# Altium footprint library Connector_Wire.PcbLib: 326 footprints (part 19 of 21)
Each footprint in its own frame and in the unit in brackets; x right, y up, seen from the top. Pads: shape width x height; smd on the part's side, far side on the other; paste and mask are expansions set on the pad; w line width, h text height; cw(c..) or ccw(c..) is an arc to the next point about the centre after c.
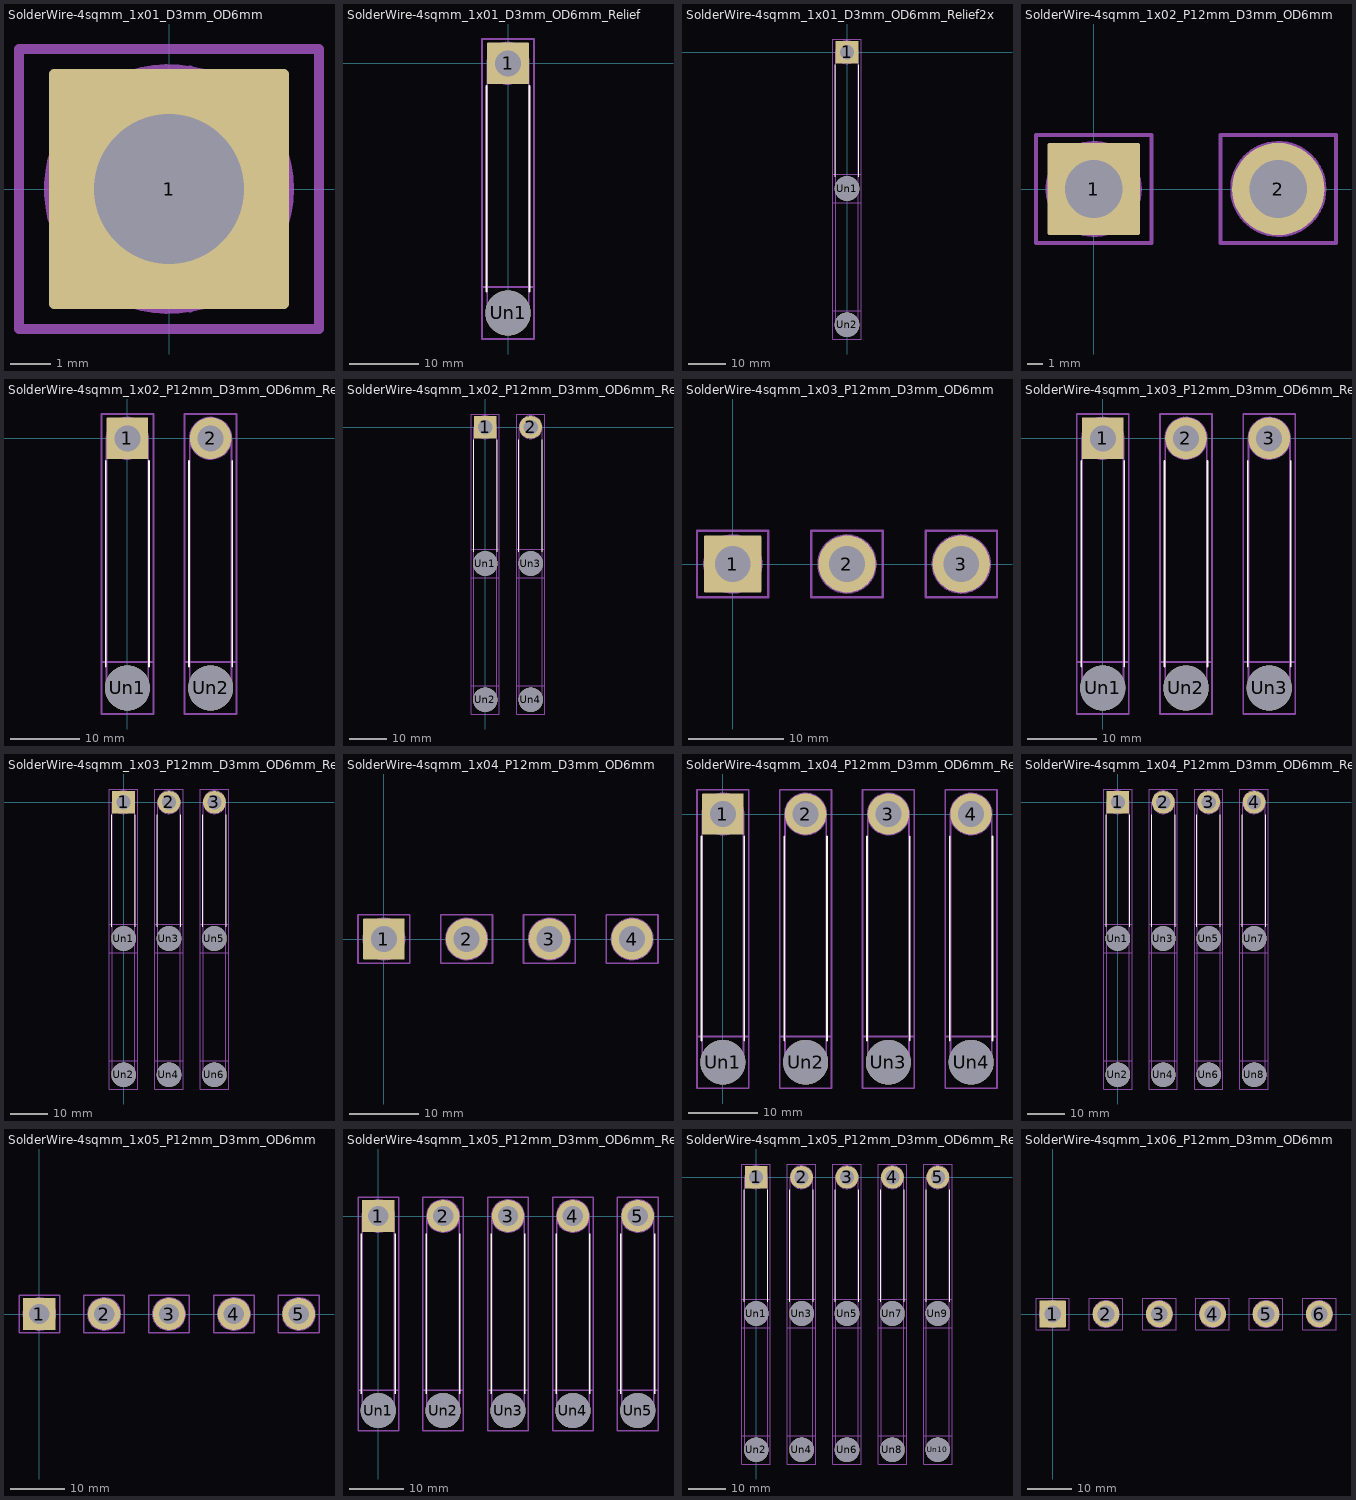
[diagram p18: the footprints below, top view; thin cyan lines are the x and y axes]

## SolderWire-4sqmm_1x01_D3mm_OD6mm [mm]
pads (1):
  rrect4% 6x6 hole 3.75: 1(0,0)
Top Assembly:
  circle w0.254: c0,0 r3
  text "'.Designator'" at -4.047,-0.84 h1
Top Courtyard:
  lines w0.254: -3.75,-3.5 3.75,-3.5 3.75,3.5 -3.75,3.5 -3.75,-3.5
Top Designator:
  text ".Designator" at -7.768,-0.508 h1.52

## SolderWire-4sqmm_1x01_D3mm_OD6mm_Relief [mm]
pads (2):
  rrect4% 6x6 hole 3.75: 1(0,0)
  round 6.5 hole 6.5: Un1(0,-36)
F.SilkS:
  lines w0.254: -3.11,-32.89 -3.11,-3.26 ; 3.11,-32.89 3.11,-3.26
Top Assembly:
  circle w0.254: c0,-36 r3
  circle w0.254: c0,0 r3
  lines w0.254: -3,-36 -3,0 ; 3,-36 3,0
  text "'.Designator'" at -4.047,-18.84 h1
Top Courtyard:
  lines w0.254: -3.75,-39.75 3.75,-39.75 3.75,3.5 -3.75,3.5 -3.75,-39.75
Bottom Courtyard:
  lines w0.254: -3.75,-39.75 3.75,-39.75 3.75,-32.25 -3.75,-32.25 -3.75,-39.75
Top Designator:
  text ".Designator" at -7.768,-18.633 h1.52

## SolderWire-4sqmm_1x01_D3mm_OD6mm_Relief2x [mm]
pads (3):
  rrect4% 6x6 hole 3.75: 1(0,0)
  round 6.5 hole 6.5: Un1(0,-36) Un2(0,-72)
F.SilkS:
  lines w0.254: -3.11,-32.89 -3.11,-3.26 ; 3.11,-32.89 3.11,-3.26
B.SilkS:
  lines w0.254: -3.11,-68.89 -3.11,-39.11 ; 3.11,-68.89 3.11,-39.11
Top Assembly:
  circle w0.254: c0,-72 r3
  circle w0.254: c0,-36 r3
  circle w0.254: c0,0 r3
  lines w0.254: -3,-36 -3,0 ; 3,-36 3,0
  text "'.Designator'" at -4.047,-18.84 h1
Bottom Assembly:
  circle w0.254: c0,-72 r3
  circle w0.254: c0,-36 r3
  lines w0.254: -3,-72 -3,-36 ; 3,-72 3,-36
Top Courtyard:
  lines w0.254: -3.75,-75.75 3.75,-75.75 3.75,-68.25 -3.75,-68.25 -3.75,-75.75 ; -3.75,-39.75 3.75,-39.75 3.75,3.5 -3.75,3.5 -3.75,-39.75
Bottom Courtyard:
  lines w0.254: -3.75,-75.75 3.75,-75.75 3.75,-32.25 -3.75,-32.25 -3.75,-75.75
Top Designator:
  text ".Designator" at -7.768,-36.633 h1.52

## SolderWire-4sqmm_1x02_P12mm_D3mm_OD6mm [mm]
pads (2):
  rrect4% 6x6 hole 3.75: 1(0,0)
  round 6 hole 3.75: 2(12,0)
Top Assembly:
  circle w0.254: c12,0 r3
  circle w0.254: c0,0 r3
  text "'.Designator'" at 1.953,-0.84 h1
Top Courtyard:
  lines w0.254: -3.75,-3.5 3.75,-3.5 3.75,3.5 -3.75,3.5 -3.75,-3.5 ; 8.25,-3.5 15.75,-3.5 15.75,3.5 8.25,3.5 8.25,-3.5
Top Designator:
  text ".Designator" at -1.618,-0.508 h1.52

## SolderWire-4sqmm_1x02_P12mm_D3mm_OD6mm_Relief [mm]
pads (4):
  rrect4% 6x6 hole 3.75: 1(0,0)
  round 6 hole 3.75: 2(12,0)
  round 6.5 hole 6.5: Un1(0,-36) Un2(12,-36)
F.SilkS:
  lines w0.254: -3.11,-32.89 -3.11,-3.26 ; 3.11,-32.89 3.11,-3.26 ; 8.89,-32.89 8.89,-3.26 ; 15.11,-32.89 15.11,-3.26
Top Assembly:
  circle w0.254: c12,-36 r3
  circle w0.254: c12,0 r3
  circle w0.254: c0,-36 r3
  circle w0.254: c0,0 r3
  lines w0.254: -3,-36 -3,0 ; 3,-36 3,0 ; 9,-36 9,0 ; 15,-36 15,0
  text "'.Designator'" at 1.953,-18.84 h1
Top Courtyard:
  lines w0.254: -3.75,-39.75 3.75,-39.75 3.75,3.5 -3.75,3.5 -3.75,-39.75 ; 8.25,-39.75 15.75,-39.75 15.75,3.5 8.25,3.5 8.25,-39.75
Bottom Courtyard:
  lines w0.254: -3.75,-39.75 3.75,-39.75 3.75,-32.25 -3.75,-32.25 -3.75,-39.75 ; 8.25,-39.75 15.75,-39.75 15.75,-32.25 8.25,-32.25 8.25,-39.75
Top Designator:
  text ".Designator" at -1.618,-18.633 h1.52

## SolderWire-4sqmm_1x02_P12mm_D3mm_OD6mm_Relief2x [mm]
pads (6):
  rrect4% 6x6 hole 3.75: 1(0,0)
  round 6 hole 3.75: 2(12,0)
  round 6.5 hole 6.5: Un1(0,-36) Un2(0,-72) Un3(12,-36) Un4(12,-72)
F.SilkS:
  lines w0.254: -3.11,-32.89 -3.11,-3.26 ; 3.11,-32.89 3.11,-3.26 ; 8.89,-32.89 8.89,-3.26 ; 15.11,-32.89 15.11,-3.26
B.SilkS:
  lines w0.254: -3.11,-68.89 -3.11,-39.11 ; 3.11,-68.89 3.11,-39.11 ; 8.89,-68.89 8.89,-39.11 ; 15.11,-68.89 15.11,-39.11
Top Assembly:
  circle w0.254: c12,-72 r3
  circle w0.254: c12,-36 r3
  circle w0.254: c12,0 r3
  circle w0.254: c0,-72 r3
  circle w0.254: c0,-36 r3
  circle w0.254: c0,0 r3
  lines w0.254: -3,-36 -3,0 ; 3,-36 3,0 ; 9,-36 9,0 ; 15,-36 15,0
  text "'.Designator'" at 1.953,-18.84 h1
Bottom Assembly:
  circle w0.254: c12,-72 r3
  circle w0.254: c12,-36 r3
  circle w0.254: c0,-72 r3
  circle w0.254: c0,-36 r3
  lines w0.254: -3,-72 -3,-36 ; 3,-72 3,-36 ; 9,-72 9,-36 ; 15,-72 15,-36
Top Courtyard:
  lines w0.254: -3.75,-75.75 3.75,-75.75 3.75,-68.25 -3.75,-68.25 -3.75,-75.75 ; -3.75,-39.75 3.75,-39.75 3.75,3.5 -3.75,3.5 -3.75,-39.75 ; 8.25,-75.75 15.75,-75.75 15.75,-68.25 8.25,-68.25 8.25,-75.75 ; 8.25,-39.75 15.75,-39.75 15.75,3.5 8.25,3.5 8.25,-39.75
Bottom Courtyard:
  lines w0.254: -3.75,-75.75 3.75,-75.75 3.75,-32.25 -3.75,-32.25 -3.75,-75.75 ; 8.25,-75.75 15.75,-75.75 15.75,-32.25 8.25,-32.25 8.25,-75.75
Top Designator:
  text ".Designator" at -1.618,-36.633 h1.52

## SolderWire-4sqmm_1x03_P12mm_D3mm_OD6mm [mm]
pads (3):
  rrect4% 6x6 hole 3.75: 1(0,0)
  round 6 hole 3.75: 2(12,0) 3(24,0)
Top Assembly:
  circle w0.254: c24,0 r3
  circle w0.254: c12,0 r3
  circle w0.254: c0,0 r3
  text "'.Designator'" at 7.953,-0.84 h1
Top Courtyard:
  lines w0.254: -3.75,-3.5 3.75,-3.5 3.75,3.5 -3.75,3.5 -3.75,-3.5 ; 8.25,-3.5 15.75,-3.5 15.75,3.5 8.25,3.5 8.25,-3.5 ; 20.25,-3.5 27.75,-3.5 27.75,3.5 20.25,3.5 20.25,-3.5
Top Designator:
  text ".Designator" at 4.382,-0.508 h1.52

## SolderWire-4sqmm_1x03_P12mm_D3mm_OD6mm_Relief [mm]
pads (6):
  rrect4% 6x6 hole 3.75: 1(0,0)
  round 6 hole 3.75: 2(12,0) 3(24,0)
  round 6.5 hole 6.5: Un1(0,-36) Un2(12,-36) Un3(24,-36)
F.SilkS:
  lines w0.254: -3.11,-32.89 -3.11,-3.26 ; 3.11,-32.89 3.11,-3.26 ; 8.89,-32.89 8.89,-3.26 ; 15.11,-32.89 15.11,-3.26 ; 20.89,-32.89 20.89,-3.26 ; 27.11,-32.89 27.11,-3.26
Top Assembly:
  circle w0.254: c24,-36 r3
  circle w0.254: c24,0 r3
  circle w0.254: c12,-36 r3
  circle w0.254: c12,0 r3
  circle w0.254: c0,-36 r3
  circle w0.254: c0,0 r3
  lines w0.254: -3,-36 -3,0 ; 3,-36 3,0 ; 9,-36 9,0 ; 15,-36 15,0 ; 21,-36 21,0 ; 27,-36 27,0
  text "'.Designator'" at 7.953,-18.84 h1
Top Courtyard:
  lines w0.254: -3.75,-39.75 3.75,-39.75 3.75,3.5 -3.75,3.5 -3.75,-39.75 ; 8.25,-39.75 15.75,-39.75 15.75,3.5 8.25,3.5 8.25,-39.75 ; 20.25,-39.75 27.75,-39.75 27.75,3.5 20.25,3.5 20.25,-39.75
Bottom Courtyard:
  lines w0.254: -3.75,-39.75 3.75,-39.75 3.75,-32.25 -3.75,-32.25 -3.75,-39.75 ; 8.25,-39.75 15.75,-39.75 15.75,-32.25 8.25,-32.25 8.25,-39.75 ; 20.25,-39.75 27.75,-39.75 27.75,-32.25 20.25,-32.25 20.25,-39.75
Top Designator:
  text ".Designator" at 4.382,-18.633 h1.52

## SolderWire-4sqmm_1x03_P12mm_D3mm_OD6mm_Relief2x [mm]
pads (9):
  rrect4% 6x6 hole 3.75: 1(0,0)
  round 6 hole 3.75: 2(12,0) 3(24,0)
  round 6.5 hole 6.5: Un1(0,-36) Un2(0,-72) Un3(12,-36) Un4(12,-72) Un5(24,-36) Un6(24,-72)
F.SilkS:
  lines w0.254: -3.11,-32.89 -3.11,-3.26 ; 3.11,-32.89 3.11,-3.26 ; 8.89,-32.89 8.89,-3.26 ; 15.11,-32.89 15.11,-3.26 ; 20.89,-32.89 20.89,-3.26 ; 27.11,-32.89 27.11,-3.26
B.SilkS:
  lines w0.254: -3.11,-68.89 -3.11,-39.11 ; 3.11,-68.89 3.11,-39.11 ; 8.89,-68.89 8.89,-39.11 ; 15.11,-68.89 15.11,-39.11 ; 20.89,-68.89 20.89,-39.11 ; 27.11,-68.89 27.11,-39.11
Top Assembly:
  circle w0.254: c24,-72 r3
  circle w0.254: c24,-36 r3
  circle w0.254: c24,0 r3
  circle w0.254: c12,-72 r3
  circle w0.254: c12,-36 r3
  circle w0.254: c12,0 r3
  circle w0.254: c0,-72 r3
  circle w0.254: c0,-36 r3
  circle w0.254: c0,0 r3
  lines w0.254: -3,-36 -3,0 ; 3,-36 3,0 ; 9,-36 9,0 ; 15,-36 15,0 ; 21,-36 21,0 ; 27,-36 27,0
  text "'.Designator'" at 7.953,-18.84 h1
Bottom Assembly:
  circle w0.254: c24,-72 r3
  circle w0.254: c24,-36 r3
  circle w0.254: c12,-72 r3
  circle w0.254: c12,-36 r3
  circle w0.254: c0,-72 r3
  circle w0.254: c0,-36 r3
  lines w0.254: -3,-72 -3,-36 ; 3,-72 3,-36 ; 9,-72 9,-36 ; 15,-72 15,-36 ; 21,-72 21,-36 ; 27,-72 27,-36
Top Courtyard:
  lines w0.254: -3.75,-75.75 3.75,-75.75 3.75,-68.25 -3.75,-68.25 -3.75,-75.75 ; -3.75,-39.75 3.75,-39.75 3.75,3.5 -3.75,3.5 -3.75,-39.75 ; 8.25,-75.75 15.75,-75.75 15.75,-68.25 8.25,-68.25 8.25,-75.75 ; 8.25,-39.75 15.75,-39.75 15.75,3.5 8.25,3.5 8.25,-39.75 ; 20.25,-75.75 27.75,-75.75 27.75,-68.25 20.25,-68.25 20.25,-75.75 ; 20.25,-39.75 27.75,-39.75 27.75,3.5 20.25,3.5 20.25,-39.75
Bottom Courtyard:
  lines w0.254: -3.75,-75.75 3.75,-75.75 3.75,-32.25 -3.75,-32.25 -3.75,-75.75 ; 8.25,-75.75 15.75,-75.75 15.75,-32.25 8.25,-32.25 8.25,-75.75 ; 20.25,-75.75 27.75,-75.75 27.75,-32.25 20.25,-32.25 20.25,-75.75
Top Designator:
  text ".Designator" at 4.382,-36.633 h1.52

## SolderWire-4sqmm_1x04_P12mm_D3mm_OD6mm [mm]
pads (4):
  rrect4% 6x6 hole 3.75: 1(0,0)
  round 6 hole 3.75: 2(12,0) 3(24,0) 4(36,0)
Top Assembly:
  circle w0.254: c36,0 r3
  circle w0.254: c24,0 r3
  circle w0.254: c12,0 r3
  circle w0.254: c0,0 r3
  text "'.Designator'" at 13.953,-0.84 h1
Top Courtyard:
  lines w0.254: -3.75,-3.5 3.75,-3.5 3.75,3.5 -3.75,3.5 -3.75,-3.5 ; 8.25,-3.5 15.75,-3.5 15.75,3.5 8.25,3.5 8.25,-3.5 ; 20.25,-3.5 27.75,-3.5 27.75,3.5 20.25,3.5 20.25,-3.5 ; 32.25,-3.5 39.75,-3.5 39.75,3.5 32.25,3.5 32.25,-3.5
Top Designator:
  text ".Designator" at 10.382,-0.508 h1.52

## SolderWire-4sqmm_1x04_P12mm_D3mm_OD6mm_Relief [mm]
pads (8):
  rrect4% 6x6 hole 3.75: 1(0,0)
  round 6 hole 3.75: 2(12,0) 3(24,0) 4(36,0)
  round 6.5 hole 6.5: Un1(0,-36) Un2(12,-36) Un3(24,-36) Un4(36,-36)
F.SilkS:
  lines w0.254: -3.11,-32.89 -3.11,-3.26 ; 3.11,-32.89 3.11,-3.26 ; 8.89,-32.89 8.89,-3.26 ; 15.11,-32.89 15.11,-3.26 ; 20.89,-32.89 20.89,-3.26 ; 27.11,-32.89 27.11,-3.26 ; 32.89,-32.89 32.89,-3.26 ; 39.11,-32.89 39.11,-3.26
Top Assembly:
  circle w0.254: c36,-36 r3
  circle w0.254: c36,0 r3
  circle w0.254: c24,-36 r3
  circle w0.254: c24,0 r3
  circle w0.254: c12,-36 r3
  circle w0.254: c12,0 r3
  circle w0.254: c0,-36 r3
  circle w0.254: c0,0 r3
  lines w0.254: -3,-36 -3,0 ; 3,-36 3,0 ; 9,-36 9,0 ; 15,-36 15,0 ; 21,-36 21,0 ; 27,-36 27,0 ; 33,-36 33,0 ; 39,-36 39,0
  text "'.Designator'" at 13.953,-18.84 h1
Top Courtyard:
  lines w0.254: -3.75,-39.75 3.75,-39.75 3.75,3.5 -3.75,3.5 -3.75,-39.75 ; 8.25,-39.75 15.75,-39.75 15.75,3.5 8.25,3.5 8.25,-39.75 ; 20.25,-39.75 27.75,-39.75 27.75,3.5 20.25,3.5 20.25,-39.75 ; 32.25,-39.75 39.75,-39.75 39.75,3.5 32.25,3.5 32.25,-39.75
Bottom Courtyard:
  lines w0.254: -3.75,-39.75 3.75,-39.75 3.75,-32.25 -3.75,-32.25 -3.75,-39.75 ; 8.25,-39.75 15.75,-39.75 15.75,-32.25 8.25,-32.25 8.25,-39.75 ; 20.25,-39.75 27.75,-39.75 27.75,-32.25 20.25,-32.25 20.25,-39.75 ; 32.25,-39.75 39.75,-39.75 39.75,-32.25 32.25,-32.25 32.25,-39.75
Top Designator:
  text ".Designator" at 10.382,-18.633 h1.52

## SolderWire-4sqmm_1x04_P12mm_D3mm_OD6mm_Relief2x [mm]
pads (12):
  rrect4% 6x6 hole 3.75: 1(0,0)
  round 6 hole 3.75: 2(12,0) 3(24,0) 4(36,0)
  round 6.5 hole 6.5: Un1(0,-36) Un2(0,-72) Un3(12,-36) Un4(12,-72) Un5(24,-36) Un6(24,-72) Un7(36,-36) Un8(36,-72)
F.SilkS:
  lines w0.254: -3.11,-32.89 -3.11,-3.26 ; 3.11,-32.89 3.11,-3.26 ; 8.89,-32.89 8.89,-3.26 ; 15.11,-32.89 15.11,-3.26 ; 20.89,-32.89 20.89,-3.26 ; 27.11,-32.89 27.11,-3.26 ; 32.89,-32.89 32.89,-3.26 ; 39.11,-32.89 39.11,-3.26
B.SilkS:
  lines w0.254: -3.11,-68.89 -3.11,-39.11 ; 3.11,-68.89 3.11,-39.11 ; 8.89,-68.89 8.89,-39.11 ; 15.11,-68.89 15.11,-39.11 ; 20.89,-68.89 20.89,-39.11 ; 27.11,-68.89 27.11,-39.11 ; 32.89,-68.89 32.89,-39.11 ; 39.11,-68.89 39.11,-39.11
Top Assembly:
  circle w0.254: c36,-72 r3
  circle w0.254: c36,-36 r3
  circle w0.254: c36,0 r3
  circle w0.254: c24,-72 r3
  circle w0.254: c24,-36 r3
  circle w0.254: c24,0 r3
  circle w0.254: c12,-72 r3
  circle w0.254: c12,-36 r3
  circle w0.254: c12,0 r3
  circle w0.254: c0,-72 r3
  circle w0.254: c0,-36 r3
  circle w0.254: c0,0 r3
  lines w0.254: -3,-36 -3,0 ; 3,-36 3,0 ; 9,-36 9,0 ; 15,-36 15,0 ; 21,-36 21,0 ; 27,-36 27,0 ; 33,-36 33,0 ; 39,-36 39,0
  text "'.Designator'" at 13.953,-18.84 h1
Bottom Assembly:
  circle w0.254: c36,-72 r3
  circle w0.254: c36,-36 r3
  circle w0.254: c24,-72 r3
  circle w0.254: c24,-36 r3
  circle w0.254: c12,-72 r3
  circle w0.254: c12,-36 r3
  circle w0.254: c0,-72 r3
  circle w0.254: c0,-36 r3
  lines w0.254: -3,-72 -3,-36 ; 3,-72 3,-36 ; 9,-72 9,-36 ; 15,-72 15,-36 ; 21,-72 21,-36 ; 27,-72 27,-36 ; 33,-72 33,-36 ; 39,-72 39,-36
Top Courtyard:
  lines w0.254: -3.75,-75.75 3.75,-75.75 3.75,-68.25 -3.75,-68.25 -3.75,-75.75 ; -3.75,-39.75 3.75,-39.75 3.75,3.5 -3.75,3.5 -3.75,-39.75 ; 8.25,-75.75 15.75,-75.75 15.75,-68.25 8.25,-68.25 8.25,-75.75 ; 8.25,-39.75 15.75,-39.75 15.75,3.5 8.25,3.5 8.25,-39.75 ; 20.25,-75.75 27.75,-75.75 27.75,-68.25 20.25,-68.25 20.25,-75.75 ; 20.25,-39.75 27.75,-39.75 27.75,3.5 20.25,3.5 20.25,-39.75 ; 32.25,-75.75 39.75,-75.75 39.75,-68.25 32.25,-68.25 32.25,-75.75 ; 32.25,-39.75 39.75,-39.75 39.75,3.5 32.25,3.5 32.25,-39.75
Bottom Courtyard:
  lines w0.254: -3.75,-75.75 3.75,-75.75 3.75,-32.25 -3.75,-32.25 -3.75,-75.75 ; 8.25,-75.75 15.75,-75.75 15.75,-32.25 8.25,-32.25 8.25,-75.75 ; 20.25,-75.75 27.75,-75.75 27.75,-32.25 20.25,-32.25 20.25,-75.75 ; 32.25,-75.75 39.75,-75.75 39.75,-32.25 32.25,-32.25 32.25,-75.75
Top Designator:
  text ".Designator" at 10.382,-36.633 h1.52

## SolderWire-4sqmm_1x05_P12mm_D3mm_OD6mm [mm]
pads (5):
  rrect4% 6x6 hole 3.75: 1(0,0)
  round 6 hole 3.75: 2(12,0) 3(24,0) 4(36,0) 5(48,0)
Top Assembly:
  circle w0.254: c48,0 r3
  circle w0.254: c36,0 r3
  circle w0.254: c24,0 r3
  circle w0.254: c12,0 r3
  circle w0.254: c0,0 r3
  text "'.Designator'" at 19.953,-0.84 h1
Top Courtyard:
  lines w0.254: -3.75,-3.5 3.75,-3.5 3.75,3.5 -3.75,3.5 -3.75,-3.5 ; 8.25,-3.5 15.75,-3.5 15.75,3.5 8.25,3.5 8.25,-3.5 ; 20.25,-3.5 27.75,-3.5 27.75,3.5 20.25,3.5 20.25,-3.5 ; 32.25,-3.5 39.75,-3.5 39.75,3.5 32.25,3.5 32.25,-3.5 ; 44.25,-3.5 51.75,-3.5 51.75,3.5 44.25,3.5 44.25,-3.5
Top Designator:
  text ".Designator" at 16.382,-0.508 h1.52

## SolderWire-4sqmm_1x05_P12mm_D3mm_OD6mm_Relief [mm]
pads (10):
  rrect4% 6x6 hole 3.75: 1(0,0)
  round 6 hole 3.75: 2(12,0) 3(24,0) 4(36,0) 5(48,0)
  round 6.5 hole 6.5: Un1(0,-36) Un2(12,-36) Un3(24,-36) Un4(36,-36) Un5(48,-36)
F.SilkS:
  lines w0.254: -3.11,-32.89 -3.11,-3.26 ; 3.11,-32.89 3.11,-3.26 ; 8.89,-32.89 8.89,-3.26 ; 15.11,-32.89 15.11,-3.26 ; 20.89,-32.89 20.89,-3.26 ; 27.11,-32.89 27.11,-3.26 ; 32.89,-32.89 32.89,-3.26 ; 39.11,-32.89 39.11,-3.26 ; 44.89,-32.89 44.89,-3.26 ; 51.11,-32.89 51.11,-3.26
Top Assembly:
  circle w0.254: c48,-36 r3
  circle w0.254: c48,0 r3
  circle w0.254: c36,-36 r3
  circle w0.254: c36,0 r3
  circle w0.254: c24,-36 r3
  circle w0.254: c24,0 r3
  circle w0.254: c12,-36 r3
  circle w0.254: c12,0 r3
  circle w0.254: c0,-36 r3
  circle w0.254: c0,0 r3
  lines w0.254: -3,-36 -3,0 ; 3,-36 3,0 ; 9,-36 9,0 ; 15,-36 15,0 ; 21,-36 21,0 ; 27,-36 27,0 ; 33,-36 33,0 ; 39,-36 39,0 ; 45,-36 45,0 ; 51,-36 51,0
  text "'.Designator'" at 19.953,-18.84 h1
Top Courtyard:
  lines w0.254: -3.75,-39.75 3.75,-39.75 3.75,3.5 -3.75,3.5 -3.75,-39.75 ; 8.25,-39.75 15.75,-39.75 15.75,3.5 8.25,3.5 8.25,-39.75 ; 20.25,-39.75 27.75,-39.75 27.75,3.5 20.25,3.5 20.25,-39.75 ; 32.25,-39.75 39.75,-39.75 39.75,3.5 32.25,3.5 32.25,-39.75 ; 44.25,-39.75 51.75,-39.75 51.75,3.5 44.25,3.5 44.25,-39.75
Bottom Courtyard:
  lines w0.254: -3.75,-39.75 3.75,-39.75 3.75,-32.25 -3.75,-32.25 -3.75,-39.75 ; 8.25,-39.75 15.75,-39.75 15.75,-32.25 8.25,-32.25 8.25,-39.75 ; 20.25,-39.75 27.75,-39.75 27.75,-32.25 20.25,-32.25 20.25,-39.75 ; 32.25,-39.75 39.75,-39.75 39.75,-32.25 32.25,-32.25 32.25,-39.75 ; 44.25,-39.75 51.75,-39.75 51.75,-32.25 44.25,-32.25 44.25,-39.75
Top Designator:
  text ".Designator" at 16.382,-18.633 h1.52

## SolderWire-4sqmm_1x05_P12mm_D3mm_OD6mm_Relief2x [mm]
pads (15):
  rrect4% 6x6 hole 3.75: 1(0,0)
  round 6 hole 3.75: 2(12,0) 3(24,0) 4(36,0) 5(48,0)
  round 6.5 hole 6.5: Un1(0,-36) Un2(0,-72) Un3(12,-36) Un4(12,-72) Un5(24,-36) Un6(24,-72) Un7(36,-36) Un8(36,-72) Un9(48,-36) Un10(48,-72)
F.SilkS:
  lines w0.254: -3.11,-32.89 -3.11,-3.26 ; 3.11,-32.89 3.11,-3.26 ; 8.89,-32.89 8.89,-3.26 ; 15.11,-32.89 15.11,-3.26 ; 20.89,-32.89 20.89,-3.26 ; 27.11,-32.89 27.11,-3.26 ; 32.89,-32.89 32.89,-3.26 ; 39.11,-32.89 39.11,-3.26 ; 44.89,-32.89 44.89,-3.26 ; 51.11,-32.89 51.11,-3.26
B.SilkS:
  lines w0.254: -3.11,-68.89 -3.11,-39.11 ; 3.11,-68.89 3.11,-39.11 ; 8.89,-68.89 8.89,-39.11 ; 15.11,-68.89 15.11,-39.11 ; 20.89,-68.89 20.89,-39.11 ; 27.11,-68.89 27.11,-39.11 ; 32.89,-68.89 32.89,-39.11 ; 39.11,-68.89 39.11,-39.11 ; 44.89,-68.89 44.89,-39.11 ; 51.11,-68.89 51.11,-39.11
Top Assembly:
  circle w0.254: c48,-72 r3
  circle w0.254: c48,-36 r3
  circle w0.254: c48,0 r3
  circle w0.254: c36,-72 r3
  circle w0.254: c36,-36 r3
  circle w0.254: c36,0 r3
  circle w0.254: c24,-72 r3
  circle w0.254: c24,-36 r3
  circle w0.254: c24,0 r3
  circle w0.254: c12,-72 r3
  circle w0.254: c12,-36 r3
  circle w0.254: c12,0 r3
  circle w0.254: c0,-72 r3
  circle w0.254: c0,-36 r3
  circle w0.254: c0,0 r3
  lines w0.254: -3,-36 -3,0 ; 3,-36 3,0 ; 9,-36 9,0 ; 15,-36 15,0 ; 21,-36 21,0 ; 27,-36 27,0 ; 33,-36 33,0 ; 39,-36 39,0 ; 45,-36 45,0 ; 51,-36 51,0
  text "'.Designator'" at 19.953,-18.84 h1
Bottom Assembly:
  circle w0.254: c48,-72 r3
  circle w0.254: c48,-36 r3
  circle w0.254: c36,-72 r3
  circle w0.254: c36,-36 r3
  circle w0.254: c24,-72 r3
  circle w0.254: c24,-36 r3
  circle w0.254: c12,-72 r3
  circle w0.254: c12,-36 r3
  circle w0.254: c0,-72 r3
  circle w0.254: c0,-36 r3
  lines w0.254: -3,-72 -3,-36 ; 3,-72 3,-36 ; 9,-72 9,-36 ; 15,-72 15,-36 ; 21,-72 21,-36 ; 27,-72 27,-36 ; 33,-72 33,-36 ; 39,-72 39,-36 ; 45,-72 45,-36 ; 51,-72 51,-36
Top Courtyard:
  lines w0.254: -3.75,-75.75 3.75,-75.75 3.75,-68.25 -3.75,-68.25 -3.75,-75.75 ; -3.75,-39.75 3.75,-39.75 3.75,3.5 -3.75,3.5 -3.75,-39.75 ; 8.25,-75.75 15.75,-75.75 15.75,-68.25 8.25,-68.25 8.25,-75.75 ; 8.25,-39.75 15.75,-39.75 15.75,3.5 8.25,3.5 8.25,-39.75 ; 20.25,-75.75 27.75,-75.75 27.75,-68.25 20.25,-68.25 20.25,-75.75 ; 20.25,-39.75 27.75,-39.75 27.75,3.5 20.25,3.5 20.25,-39.75 ; 32.25,-75.75 39.75,-75.75 39.75,-68.25 32.25,-68.25 32.25,-75.75 ; 32.25,-39.75 39.75,-39.75 39.75,3.5 32.25,3.5 32.25,-39.75 ; 44.25,-75.75 51.75,-75.75 51.75,-68.25 44.25,-68.25 44.25,-75.75 ; 44.25,-39.75 51.75,-39.75 51.75,3.5 44.25,3.5 44.25,-39.75
Bottom Courtyard:
  lines w0.254: -3.75,-75.75 3.75,-75.75 3.75,-32.25 -3.75,-32.25 -3.75,-75.75 ; 8.25,-75.75 15.75,-75.75 15.75,-32.25 8.25,-32.25 8.25,-75.75 ; 20.25,-75.75 27.75,-75.75 27.75,-32.25 20.25,-32.25 20.25,-75.75 ; 32.25,-75.75 39.75,-75.75 39.75,-32.25 32.25,-32.25 32.25,-75.75 ; 44.25,-75.75 51.75,-75.75 51.75,-32.25 44.25,-32.25 44.25,-75.75
Top Designator:
  text ".Designator" at 16.382,-36.633 h1.52

## SolderWire-4sqmm_1x06_P12mm_D3mm_OD6mm [mm]
pads (6):
  rrect4% 6x6 hole 3.75: 1(0,0)
  round 6 hole 3.75: 2(12,0) 3(24,0) 4(36,0) 5(48,0) 6(60,0)
Top Assembly:
  circle w0.254: c60,0 r3
  circle w0.254: c48,0 r3
  circle w0.254: c36,0 r3
  circle w0.254: c24,0 r3
  circle w0.254: c12,0 r3
  circle w0.254: c0,0 r3
  text "'.Designator'" at 25.953,-0.84 h1
Top Courtyard:
  lines w0.254: -3.75,-3.5 3.75,-3.5 3.75,3.5 -3.75,3.5 -3.75,-3.5 ; 8.25,-3.5 15.75,-3.5 15.75,3.5 8.25,3.5 8.25,-3.5 ; 20.25,-3.5 27.75,-3.5 27.75,3.5 20.25,3.5 20.25,-3.5 ; 32.25,-3.5 39.75,-3.5 39.75,3.5 32.25,3.5 32.25,-3.5 ; 44.25,-3.5 51.75,-3.5 51.75,3.5 44.25,3.5 44.25,-3.5 ; 56.25,-3.5 63.75,-3.5 63.75,3.5 56.25,3.5 56.25,-3.5
Top Designator:
  text ".Designator" at 22.382,-0.508 h1.52